# EAGLE library part LCD_2X8 (library 05 EAGLE autorska biblioteka LCD_2x8)
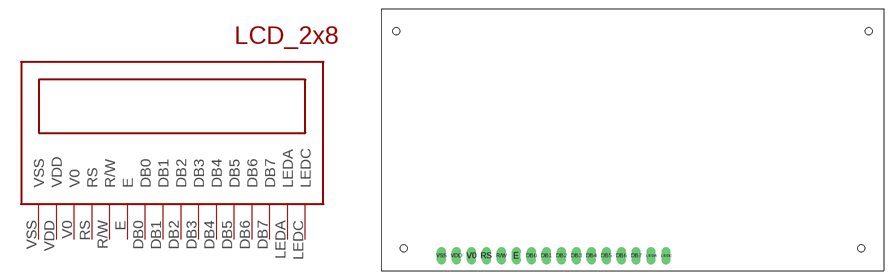
[diagram p0: symbol with the pads of LCD_2X8; footprint LCD_2X8]

Designator prefix -

## LCD_2X8  [LCD_2X8]
DB0  DB0
DB1  DB1
DB2  DB2
DB3  DB3
DB4  DB4
DB5  DB5
DB6  DB6
DB7  DB7
E  E
LEDA  LEDA
LEDC  LEDC
R/W  R/W
RS  RS
V0  V0
VDD  VDD
VSS  VSS

## Footprint LCD_2X8 (pad centres in mm)
drill 1.016 long: DB0 25.4,2.54; DB1 27.94,2.54; DB2 30.48,2.54; DB3 33.02,2.54; DB4 35.56,2.54; DB5 38.1,2.54; DB6 40.64,2.54; DB7 43.18,2.54; E 22.86,2.54; LEDA 45.72,2.54; LEDC 48.26,2.54; R/W 20.32,2.54; RS 17.78,2.54; V0 15.24,2.54; VDD 12.7,2.54; VSS 10.16,2.54
hole 1.2 at 3.81,3.81
hole 1.2 at 2.54,40.64
hole 1.2 at 82.55,40.64
hole 1.2 at 81.28,3.81